# Altium footprint library PcbLib1.PcbLib: 37 footprints (part 2 of 3)
Each footprint in its own frame and in the unit in brackets; x right, y up, seen from the top. Pads: shape width x height; smd on the part's side, far side on the other; paste and mask are expansions set on the pad; w line width, h text height; cw(c..) or ccw(c..) is an arc to the next point about the centre after c.
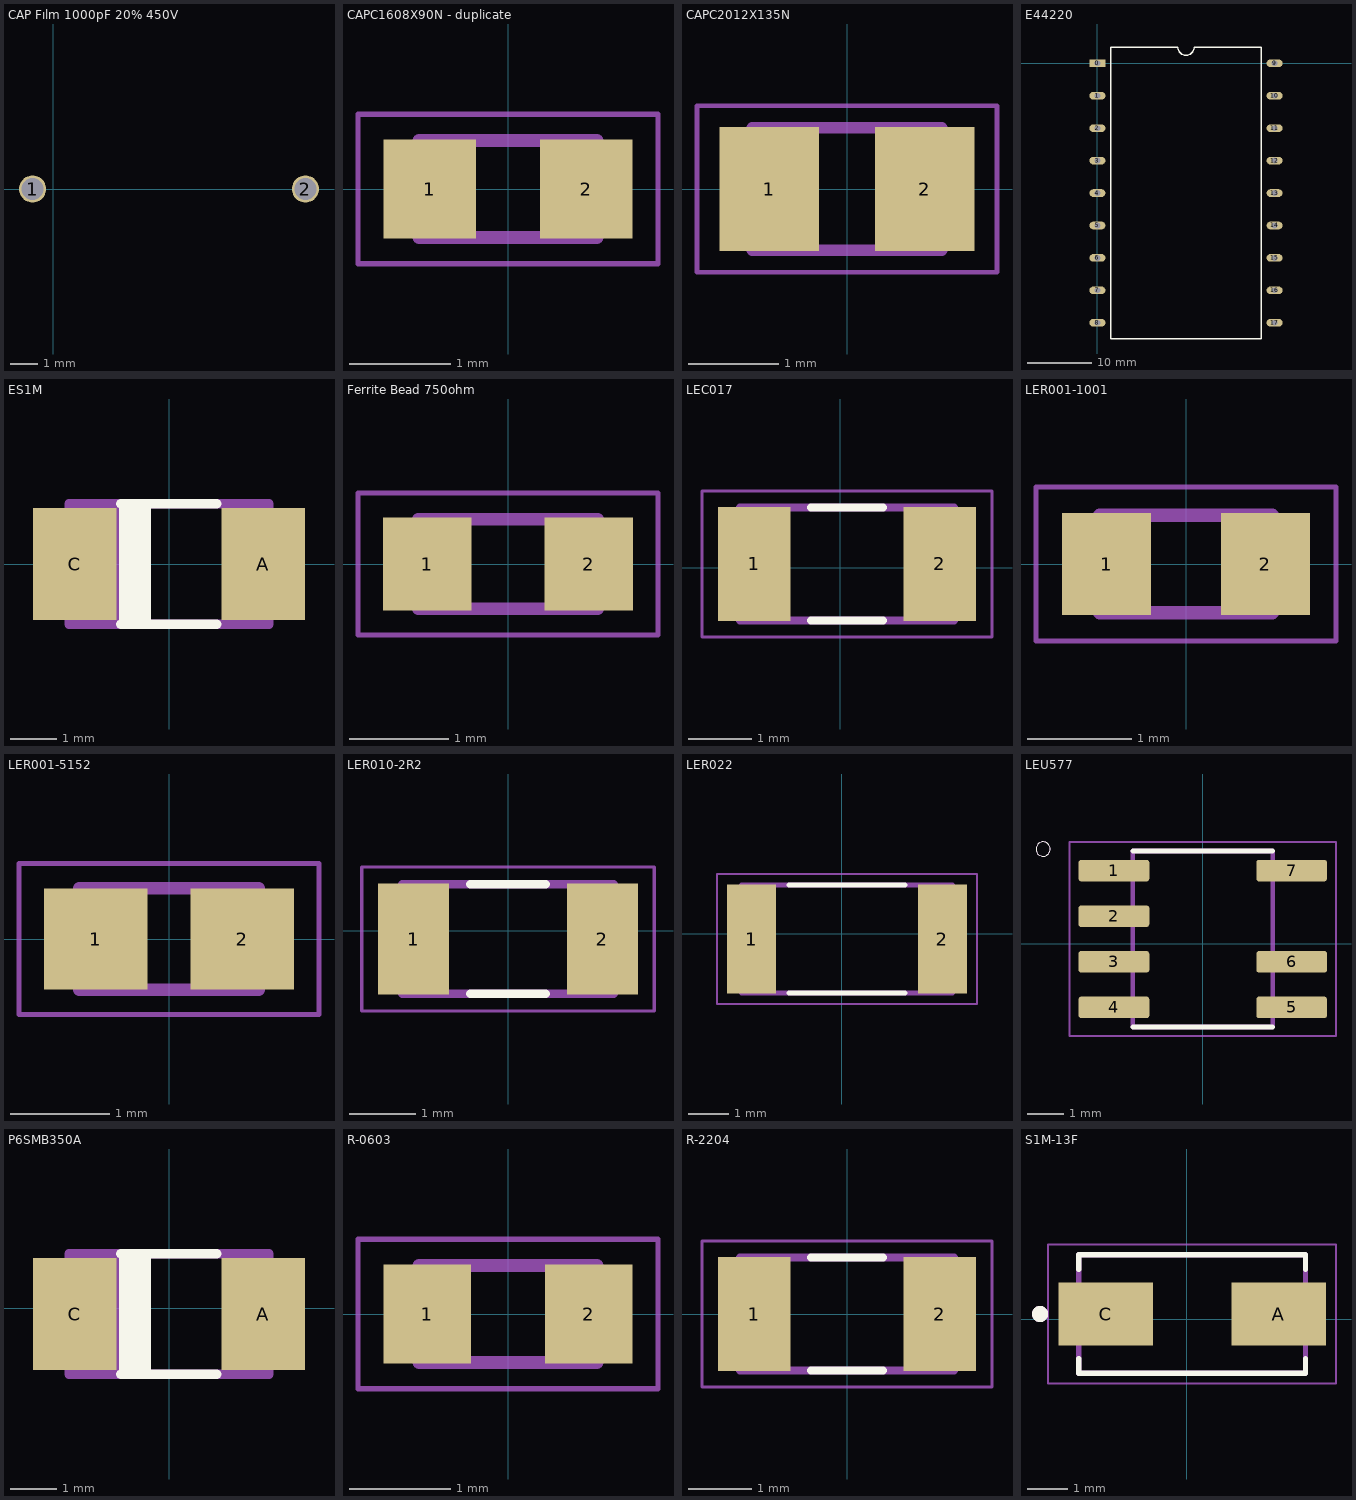
[diagram p1: the footprints below, top view; thin cyan lines are the x and y axes]

## CAP Fılm 1000pF 20% 450V [mm]
pads (2):
  round 1 hole 0.8: 1(-0.765,0) 2(9.271,0)

## CAPC1608X90N - duplicate [mm]
pads (2):
  rect 0.92x0.98 smd: 1(-0.775,0) 2(0.775,0)
Mechanical 13:
  lines w0.127: -0.88,-0.48 -0.88,0.48 0.88,0.48 0.88,-0.48 -0.88,-0.48
Mechanical 15:
  lines w0.05: -1.485,-0.74 -1.485,0.74 1.485,0.74 1.485,-0.74 -1.485,-0.74

## CAPC2012X135N [mm]
pads (2):
  rect 1.1x1.38 smd: 1(-0.863,0) 2(0.863,0)
Mechanical 13:
  lines w0.127: -1.05,-0.68 -1.05,0.68 1.05,0.68 1.05,-0.68 -1.05,-0.68
Mechanical 15:
  lines w0.05: -1.665,-0.925 -1.665,0.925 1.665,0.925 1.665,-0.925 -1.665,-0.925
3D body "step_temp.STEP": height 0.72, standoff -0.72, extent -1,-0.625 1,0.625

## E44220 [mm]
pads (18):
  rect 2.5x1.2 hole 0.9: 0(0,0)
  oval 2.5x1.2 hole 0.9: 1(0,-5.08) 2(0,-10.16) 3(0,-15.24) 4(0,-20.32) 5(0,-25.4) 6(0,-30.48) 7(0,-35.56) 8(0,-40.64) 9(27.74,0) 10(27.74,-5.08) 11(27.74,-10.16) 12(27.74,-15.24) 13(27.74,-20.32) 14(27.74,-25.4) 15(27.74,-30.48) 16(27.74,-35.56) 17(27.74,-40.64)
Top Overlay:
  lines w0.2: 2.085,-43.18 2.085,2.54 12.6,2.54 ccw(c13.87,2.54) 15.14,2.54 25.655,2.54 25.655,-43.18 2.085,-43.18

## ES1M [mm]
pads (2):
  rect 1.8x2.4 smd: A(2.025,0) C(-2.025,0)
Top Overlay:
  region: -0.39,-1.225 -1.065,-1.225 -1.065,1.225 -0.39,1.225
  lines w0.203: -1.035,-1.3 1.025,-1.3 ; -1.035,1.3 1.025,1.3
Mechanical 13:
  region: -1.075,-1.225 -1.75,-1.225 -1.75,1.225 -1.075,1.225
  region: 2.825,-1.1 2.175,-1.1 2.175,1.1 2.825,1.1
  region: -2.175,-1.1 -2.825,-1.1 -2.825,1.1 -2.175,1.1
  lines w0.203: -2.15,-1.3 -2.15,1.3 2.15,1.3 2.15,-1.3 -2.15,-1.3

## Ferrite Bead 750ohm [mm]
pads (2):
  rect 0.89x0.93 smd: 1(-0.814,0) 2(0.814,0)
Mechanical 13:
  lines w0.127: -0.9,-0.45 -0.9,0.45 0.9,0.45 0.9,-0.45 -0.9,-0.45
Mechanical 15:
  lines w0.05: -1.508,-0.715 -1.508,0.715 1.508,0.715 1.508,-0.715 -1.508,-0.715

## LEC017 [mm]
pads (2):
  rect 1.16x1.82 smd: 1(-1.367,0.061) 2(1.583,0.061)
Top Overlay:
  lines w0.127: -0.462,-0.839 0.678,-0.839 ; -0.462,0.961 0.678,0.961
Mechanical 13:
  lines w0.127: -1.592,-0.839 1.808,-0.839 1.808,0.961 -1.592,0.961 -1.592,-0.839
Mechanical 15:
  lines w0.05: -2.2,-1.097 2.416,-1.097 2.416,1.219 -2.2,1.219 -2.2,-1.097

## LER001-1001 [mm]
pads (2):
  rect 0.86x0.98 smd: 1(-0.765,0) 2(0.765,0)
Mechanical 13:
  lines w0.127: -0.83,-0.47 0.83,-0.47 0.83,0.47 -0.83,0.47 -0.83,-0.47
Mechanical 15:
  lines w0.05: -1.444,-0.74 1.444,-0.74 1.444,0.74 -1.444,0.74 -1.444,-0.74

## LER001-5152 [mm]
pads (2):
  rect 1.04x1.02 smd: 1(-0.735,0) 2(0.735,0)
Mechanical 13:
  lines w0.127: -0.9,-0.51 0.9,-0.51 0.9,0.51 -0.9,0.51 -0.9,-0.51
Mechanical 15:
  lines w0.05: -1.508,-0.761 1.508,-0.761 1.508,0.761 -1.508,0.761 -1.508,-0.761

## LER010-2R2 [mm]
pads (2):
  rect 1.07x1.68 smd: 1(-1.43,-0.127) 2(1.43,-0.127)
Top Overlay:
  lines w0.127: -0.57,-0.957 0.57,-0.957 ; -0.57,0.703 0.57,0.703
Mechanical 13:
  lines w0.127: -1.6,-0.957 -1.6,0.703 1.6,0.703 1.6,-0.957 -1.6,-0.957
Mechanical 15:
  lines w0.05: -2.215,-1.217 -2.215,0.963 2.215,0.963 2.215,-1.217 -2.215,-1.217

## LER022 [mm]
pads (2):
  rect 1.2x2.67 smd: 1(-2.208,-0.127) 2(2.462,-0.127)
Top Overlay:
  lines w0.127: -1.293,-1.447 1.547,-1.447 ; -1.293,1.193 1.547,1.193
Mechanical 13:
  lines w0.127: -2.453,-1.447 2.707,-1.447 2.707,1.193 -2.453,1.193 -2.453,-1.447
Mechanical 15:
  lines w0.05: -3.058,-1.712 3.312,-1.712 3.312,1.458 -3.058,1.458 -3.058,-1.712

## LEU577 [mm]
pads (7):
  rrect25% 1.97x0.6 smd: 1(-2.475,2.032) 2(-2.475,0.762) 3(-2.475,-0.508) 4(-2.475,-1.778) 5(2.475,-1.778) 6(2.475,-0.508) 7(2.475,2.032)
Top Overlay:
  circle w0: c-4.445,2.632 r0.2
  lines w0.127: -1.95,-2.323 1.95,-2.323 ; -1.95,2.577 1.95,2.577
Mechanical 13:
  circle w0: c-4.445,2.632 r0.2
  lines w0.127: -1.95,-2.323 1.95,-2.323 1.95,2.577 -1.95,2.577 -1.95,-2.323
Mechanical 15:
  lines w0.05: -3.71,-2.573 3.71,-2.573 3.71,2.827 -3.71,2.827 -3.71,-2.573

## P6SMB350A [mm]
pads (2):
  rect 1.8x2.4 smd: A(2.025,-0.127) C(-2.025,-0.127)
Top Overlay:
  region: -0.39,-1.352 -1.065,-1.352 -1.065,1.098 -0.39,1.098
  lines w0.203: -1.035,-1.427 1.025,-1.427 ; -1.035,1.173 1.025,1.173
Mechanical 13:
  region: -2.175,-1.227 -2.825,-1.227 -2.825,0.973 -2.175,0.973
  region: 2.825,-1.227 2.175,-1.227 2.175,0.973 2.825,0.973
  region: -1.075,-1.352 -1.75,-1.352 -1.75,1.098 -1.075,1.098
  lines w0.203: -2.15,-1.427 2.15,-1.427 2.15,1.173 -2.15,1.173 -2.15,-1.427

## R-0603 [mm]
pads (2):
  rect 0.87x0.98 smd: 1(-0.8,0) 2(0.8,0)
Mechanical 13:
  lines w0.127: -0.88,-0.48 -0.88,0.48 0.88,0.48 0.88,-0.48 -0.88,-0.48
Mechanical 15:
  lines w0.05: -1.485,-0.74 -1.485,0.74 1.485,0.74 1.485,-0.74 -1.485,-0.74

## R-2204 [mm]
pads (2):
  rect 1.16x1.82 smd: 1(-1.475,0) 2(1.475,0)
Top Overlay:
  lines w0.127: -0.57,-0.9 0.57,-0.9 ; -0.57,0.9 0.57,0.9
Mechanical 13:
  lines w0.127: -1.7,-0.9 1.7,-0.9 1.7,0.9 -1.7,0.9 -1.7,-0.9
Mechanical 15:
  lines w0.05: -2.308,-1.158 2.308,-1.158 2.308,1.158 -2.308,1.158 -2.308,-1.158

## S1M-13F [mm]
pads (2):
  rect 2.33x1.55 smd: A(2.262,0.127) C(-2.008,0.127)
Top Overlay:
  circle w0.2: c-3.623,0.127 r0.1
  lines w0.127: -2.668,-0.968 -2.668,-1.333 2.922,-1.333 2.922,-0.968 ; -2.668,1.222 -2.668,1.587 2.922,1.587 2.922,1.222
Mechanical 13:
  circle w0.2: c-3.623,0.127 r0.1
  lines w0.127: -2.668,-1.333 -2.668,1.587 2.922,1.587 2.922,-1.333 -2.668,-1.333
Mechanical 15:
  lines w0.05: -3.423,-1.583 3.677,-1.583 3.677,1.837 -3.423,1.837 -3.423,-1.583